# EAGLE library part LM2736Y (library Arduino-DUE-V03)
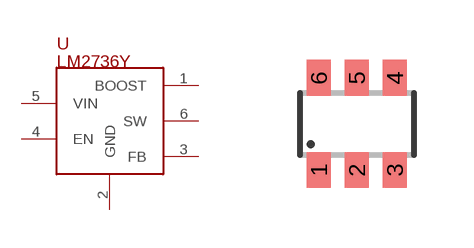
[diagram p3: symbol with the pads of SOT23-6; footprint SOT23-6]

Designator prefix -

## LM2736Y  [SOT23-6]
1  BOOST  in
2  GND  pwr
3  FB  in
4  EN  in
5  VIN  in
6  SW  out

## Footprint SOT23-6 (pad centres in mm)
Small Outline Transistor 6 lead
smd 0.6 x 0.9: 1 -0.95,-1.15; 2 0,-1.15; 3 0.95,-1.15; 4 0.95,1.15; 5 0,1.15; 6 -0.95,1.15